# EAGLE library part NOKIA-1202 (library LCD)
1.3'', 96x65 monochrome Solderable, no connector required 3.3v backlight
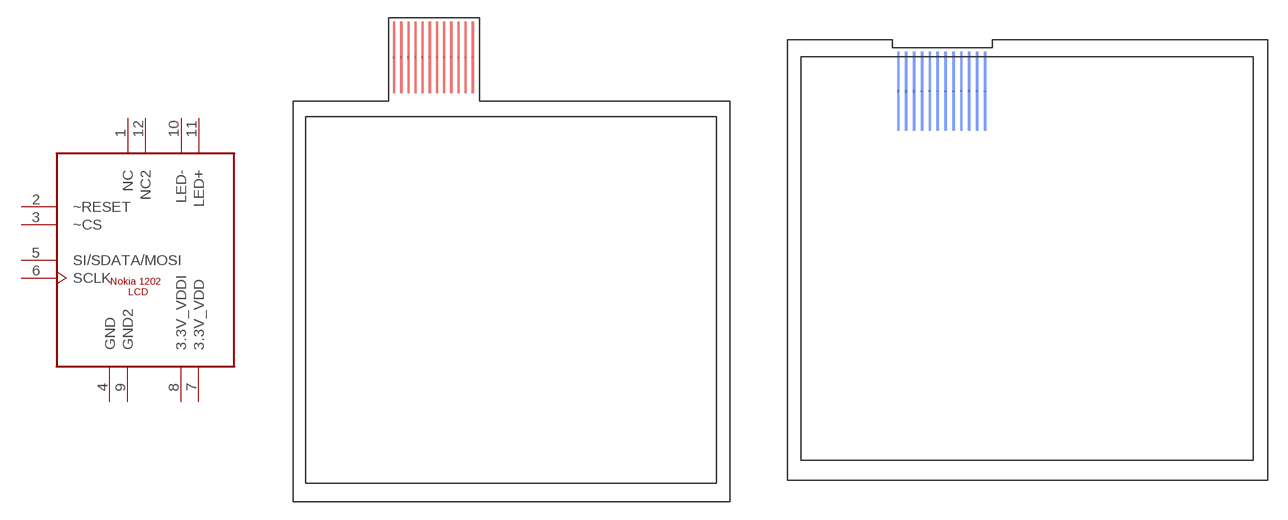
[diagram p1: symbol with the pads of NOKIA-1202; footprints NOKIA-1202, NOKIA-1202-PINBOTTOM]

Designator prefix -

## NOKIA-1202PIN-TOP  [NOKIA-1202]
1  NC  nc
2  ~RESET  in
3  ~CS  in
4  GND  pwr
5  SI/SDATA/MOSI
6  SCLK  in
7  3.3V_VDD  pwr
8  3.3V_VDDI  pwr
9  GND2  pwr
10  LED-  in
11  LED+  in
12  NC2  nc

## NOKIA-1202PIN-BOTTOM  [NOKIA-1202-PINBOTTOM]
Pads as for NOKIA-1202

## Footprint NOKIA-1202 (pad centres in mm)
Nokia 1202 LCD package with space for the LCD and pinout on same side with the LCD.
smd 0.18 x 6: 1 -2.95,20.39; 2 -3.55,20.39; 3 -4.15,20.39; 4 -4.75,20.39; 5 -5.35,20.39; 6 -5.95,20.39; 7 -6.55,20.39; 8 -7.15,20.39; 10 -8.35,20.39; 11 -8.95,20.39; 12 -9.55,20.39
smd 0.2 x 6: 9 -7.75,20.39

## Footprint NOKIA-1202-PINBOTTOM (pad centres in mm)
Nokia 1202 LCD package with space for the LCD and pinout on same side with the LCD.
smd 0.18 x 6 bottom: 1 -2.95,12.77; 2 -3.55,12.77; 3 -4.15,12.77; 4 -4.75,12.77; 5 -5.35,12.77; 6 -5.95,12.77; 7 -6.55,12.77; 8 -7.15,12.77; 10 -8.35,12.77; 11 -8.95,12.77; 12 -9.55,12.77
smd 0.2 x 6 bottom: 9 -7.75,12.77